# Altium footprint library Gate Drivers.PcbLib: 1 footprints
Each footprint in its own frame and in the unit in brackets; x right, y up, seen from the top. Pads: shape width x height; smd on the part's side, far side on the other; paste and mask are expansions set on the pad; w line width, h text height; cw(c..) or ccw(c..) is an arc to the next point about the centre after c.
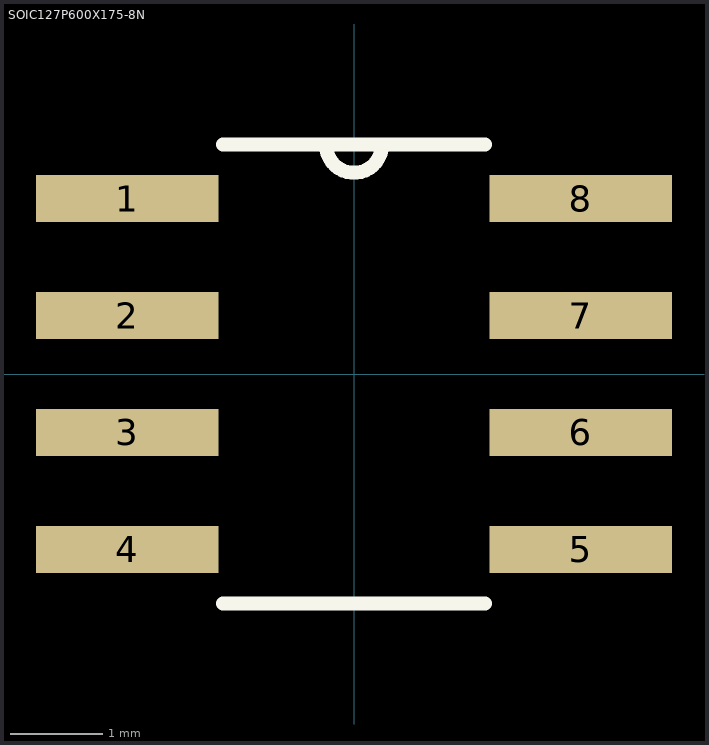
[diagram p0: the footprint, top view; thin cyan lines are the x and y axes]

## SOIC127P600X175-8N [mil]
pads (8):
  rect 78x20 smd: 1(-97,75) 2(-97,25) 3(-97,-25) 4(-97,-75) 5(97,-75) 6(97,-25) 7(97,25) 8(97,75)
Top Overlay:
  lines w6: -56,-98 56,-98 ; -56,98 -12,98 ; 56,98 12,98 ; -12,98 ccw(c0,98) 12,98 ; -12,98 12,98
3D body "User Library-SOIC_N-R8.step": height 68.9, standoff 0, extent -122.04,-98.42 122.05,98.43